# Altium footprint library CDEP147.PcbLib: 1 footprints
Each footprint in its own frame and in the unit in brackets; x right, y up, seen from the top. Pads: shape width x height; smd on the part's side, far side on the other; paste and mask are expansions set on the pad; w line width, h text height; cw(c..) or ccw(c..) is an arc to the next point about the centre after c.
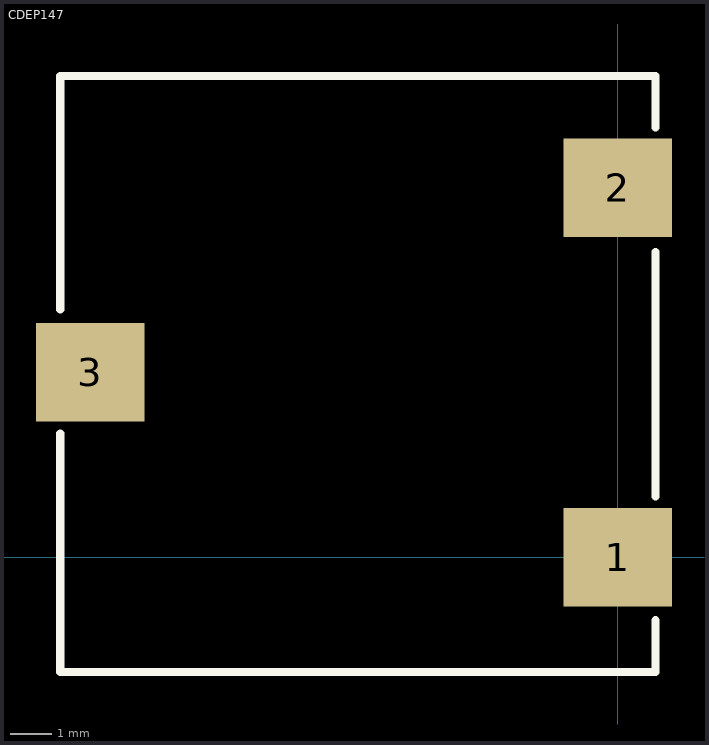
[diagram p0: the footprint, top view; thin cyan lines are the x and y axes]

## CDEP147 [mm]
height 8
pads (3):
  rect 2.65x2.4 smd: 1(0,0) 2(0,9) 3(-12.852,4.506)
Top Overlay:
  lines w0.2: -13.583,3.012 -13.583,-2.792 0.92,-2.792 0.92,-1.535 ; -13.583,6.033 -13.583,11.72 0.92,11.72 0.92,10.471 0.921,10.471 ; 0.918,7.435 0.921,7.435 0.921,1.477 ; 0.919,-1.535 0.92,-1.535
3D body "User Library-Sumida 147.step": height 8, standoff 0, extent -13.579,-2.784 0.921,11.716